# Altium footprint library MODULE_SX1308.PcbLib: 1 footprints
Each footprint in its own frame and in the unit in brackets; x right, y up, seen from the top. Pads: shape width x height; smd on the part's side, far side on the other; paste and mask are expansions set on the pad; w line width, h text height; cw(c..) or ccw(c..) is an arc to the next point about the centre after c.
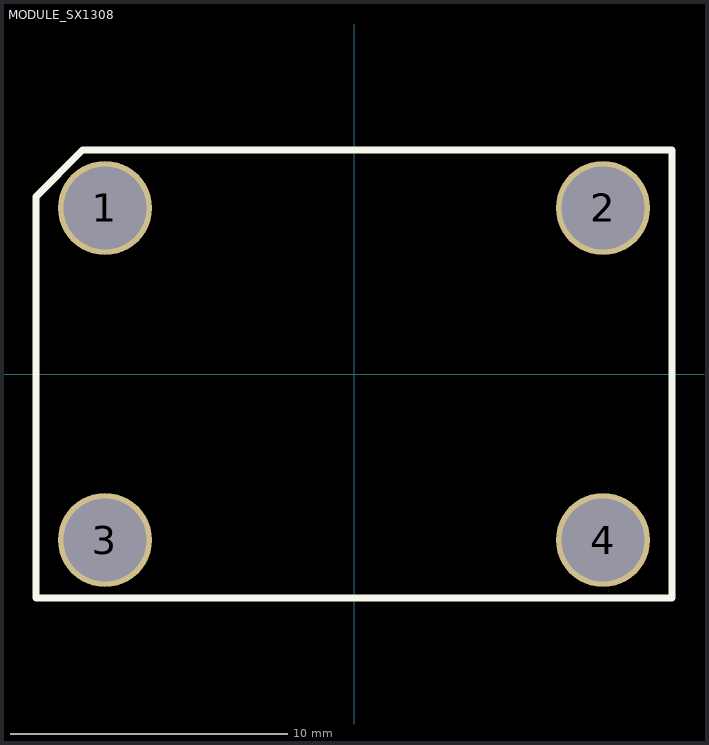
[diagram p0: the footprint, top view; thin cyan lines are the x and y axes]

## MODULE_SX1308 [mm]
height 1.524
pads (4):
  round 3.4 hole 3: 1(-9,6) 2(9,6) 3(-9,-6) 4(9,-6)
Top Overlay:
  lines w0.254: -11.5,-8.1 -11.5,6.407 -9.807,8.1 11.5,8.1 11.5,-8.1 -11.5,-8.1